# Altium schematic symbol library LM358.SchLib: 1 symbol
Pins are listed as number, name and electrical type; pins without a type are passive.

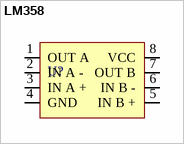
[diagram p0: symbol LM358]

## LM358
designator U?
footprint SOIC8P127_492X600X180L50X41 (Footprint not found)
pins: 1 OUT A, 2 IN A -, 3 IN A +, 4 GND, 5 IN B +, 6 IN B -, 7 OUT B, 8 VCC